# EAGLE library part MSOP8 (library DSDEagleLibrary)
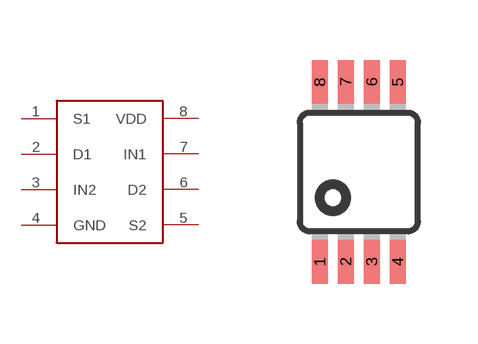
[diagram p46: symbol with the pads of MSOP8; footprint MSOP8]

Designator prefix -

## MSOP8  [MSOP8]
1  S1
2  D1
3  IN2
4  GND
5  S2
6  D2
7  IN1
8  VDD

## Footprint MSOP8 (pad centres in mm)
8M, 8-Lead, 0.118" Wide, Miniature Small Outline Package MSOP 8M-Package doc1097.pdf
smd 0.4 x 1.1: 1 -0.975,-2.25; 2 -0.325,-2.25; 3 0.325,-2.25; 4 0.975,-2.25; 5 0.975,2.25; 6 0.325,2.25; 7 -0.325,2.25; 8 -0.975,2.25